# Altium integrated library FDV302P.IntLib: 1 symbol
Pins are listed as number, name and electrical type; pins without a type are passive.

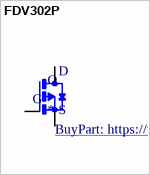
[diagram p0: symbol FDV302P]

## FDV302P
designator Q
P-Channel 25V 120mA (Ta) 350mW (Ta) Surface Mount SOT-23; MP: FDV302P; MF: ON Semiconductor; Package: SOT-23-3 ON Semiconductor; DigiKey-Purchase-URL: https://snapeda.com/shop?store=DigiKey&id=2552857; Arrow_Electronics-Purchase-URL: https://snapeda.com/shop?store=Arrow+Electronics&id=2552857; Price: None; Value: *; Availability: Good; Mouser-Purchase-URL: https://snapeda.com/shop?store=Mouser&id=2552857; SnapEDA_Link: https://www.snapeda.com/parts/FDV302P/ON%20Semiconductor/view-part/2552857/?ref=snap; BuyPart: https://www.snapeda.com/parts/FDV302P/ON%20Semiconductor/view-part/2552857/?ref=eda
footprint SOT23
pins: 1 G, 2 S, 3 D